# Altium integrated library Zener diode.IntLib: 1 symbol
Pins are listed as number, name and electrical type; pins without a type are passive.

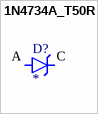
[diagram p0: symbol 1N4734A_T50R]

## 1N4734A_T50R
designator D?
1N4734 Series 1 W 5.6 V 10 uA Through Hole Zener Diode - DO-41; MP: 1N4734A_T50R; Package: None; Price: None; Value: *; Availability: Unavailable
footprint DIOAD1070W78L463D238P
pins: A, C